# EAGLE library part AMS5915 (library EASEagle)
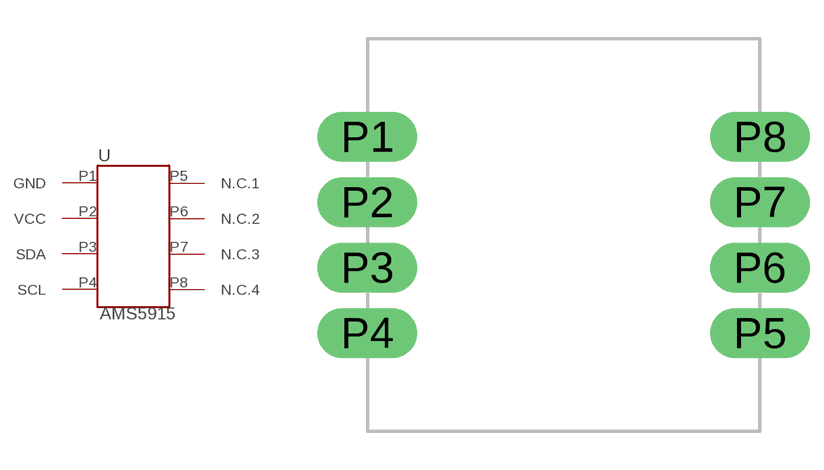
[diagram p0: symbol with the pads of DIP8W; footprint DIP8W]

Designator prefix -

## AMS5915  [DIP8W]
P1  GND
P2  VCC  pwr
P3  SDA
P4  SCL
P5  N.C.1  nc
P6  N.C.2  nc
P7  N.C.3  nc
P8  N.C.4  nc

## Footprint DIP8W (pad centres in mm)
drill 0.85 pad 1.93 long: P1 -7.62,3.81; P2 -7.62,1.27; P3 -7.62,-1.27; P4 -7.62,-3.81; P5 7.62,-3.81; P6 7.62,-1.27; P7 7.62,1.27; P8 7.62,3.81